# Altium schematic symbol library ADAU7002ACBZ.Schlib: 1 symbol
Pins are listed as number, name and electrical type; pins without a type are passive.

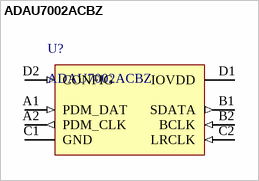
[diagram p0: symbol ADAU7002ACBZ]

## ADAU7002ACBZ
designator U?
Audio Sample Rate Converter 2 Channel 8-WLCSP (0.76x1.56)
pins: A1 PDM_DAT (in), A2 PDM_CLK (out), B1 SDATA (out), B2 BCLK (in), C1 GND (power), C2 LRCLK (in), D1 IOVDD (power), D2 CONFIG (in)